# Altium footprint library PCB_template_A4.PcbLib: 19 footprints (part 1 of 2)
Each footprint in its own frame and in the unit in brackets; x right, y up, seen from the top. Pads: shape width x height; smd on the part's side, far side on the other; paste and mask are expansions set on the pad; w line width, h text height; cw(c..) or ccw(c..) is an arc to the next point about the centre after c.
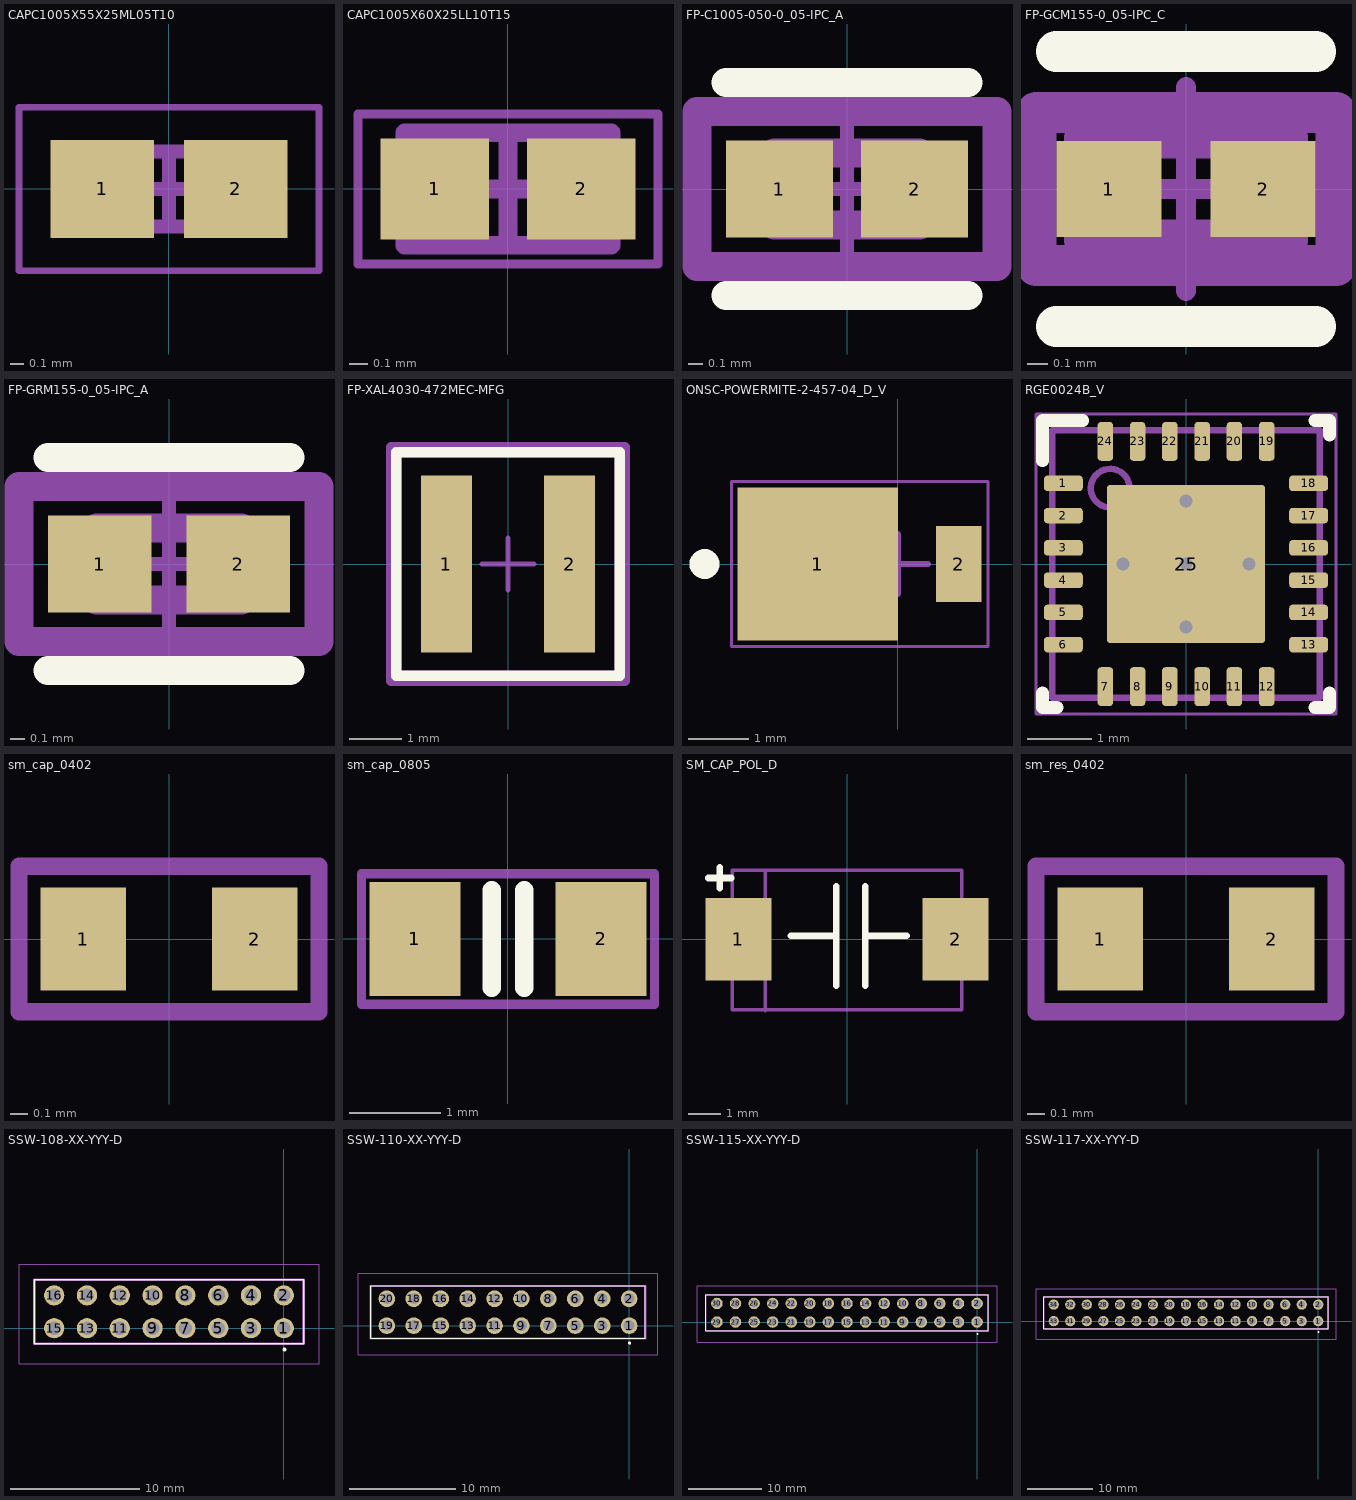
[diagram p0: the footprints below, top view; thin cyan lines are the x and y axes]

## CAPC1005X55X25ML05T10 [mm] "Chip Capacitor, 2-Leads, Body 1.00x0.50mm, IPC Low Density"
height 0.55
pads (2):
  rect 0.76x0.72 smd: 1(-0.49,0) 2(0.49,0)
Top Assembly:
  lines w0.1: -0.525,-0.275 0.525,-0.275 0.525,0.275 -0.525,0.275 -0.525,-0.275
Mechanical 15:
  lines w0.05: -1.1,-0.6 1.1,-0.6 1.1,0.6 -1.1,0.6 -1.1,-0.6
  lines w0.1: -0.275,0 0.275,0 ; 0,-0.275 0,0.275
3D body: height 0.55, standoff 0, extent 0.275,-0.275 0.525,0.275
3D body: height 0.55, standoff 0, extent -0.525,-0.275 -0.275,0.275
3D body: height 0.55, standoff 0, extent -0.275,-0.275 0.275,0.275

## CAPC1005X60X25LL10T15 [mm] "Chip Capacitor, 2-Leads, Body 1.00x0.50mm, IPC High Density"
height 0.6
pads (2):
  rect 0.58x0.54 smd: 1(-0.39,0) 2(0.39,0)
Top Assembly:
  lines w0.1: -0.55,-0.3 0.55,-0.3 0.55,0.3 -0.55,0.3 -0.55,-0.3
Mechanical 15:
  lines w0.05: -0.8,-0.4 0.8,-0.4 0.8,0.4 -0.8,0.4 -0.8,-0.4
  lines w0.1: -0.3,0 0.3,0 ; 0,-0.3 0,0.3
3D body: height 0.6, standoff 0, extent 0.3,-0.3 0.55,0.3
3D body: height 0.6, standoff 0, extent -0.55,-0.3 -0.3,0.3
3D body: height 0.6, standoff 0, extent -0.3,-0.3 0.3,0.3

## FP-C1005-050-0_05-IPC_A [mil]
pads (2):
  rect 29.11x26.48 smd paste+0 mask+0: 1(-18.37,0) 2(18.37,0)
Top Overlay:
  lines w7.87: -32.92,-28.99 32.92,-28.99 ; -32.92,28.99 32.92,28.99
Top 3D Body:
  lines w7.87: -19.68,-9.84 19.68,-9.84 19.68,9.84 -19.68,9.84 -19.68,-9.84
Top Assembly:
  lines w7.87: -40.8,-21.11 40.8,-21.11 40.8,21.11 -40.8,21.11 -40.8,-21.11
  text ".Designator" at 0,7.39 h39.37
Top Courtyard:
  lines w7.87: -40.8,-21.11 40.8,-21.11 40.8,21.11 -40.8,21.11 -40.8,-21.11
Top Component Center:
  lines w3.94: -19.68,0 19.68,0 ; 0,-19.68 0,19.68
3D body "Cap_TDK_C1005X6S1C105K050BC_eec.STEP": height 10, standoff 0, extent -40.8,-21.11 40.8,21.11

## FP-GCM155-0_05-IPC_C [mil]
pads (2):
  rect 20.29x18.6 smd paste+0 mask+0: 1(-14.9,0) 2(14.9,0)
Top Overlay:
  lines w7.87: -25.05,-26.57 25.05,-26.57 ; -25.05,26.57 25.05,26.57
Top 3D Body:
  lines w7.87: -19.68,-9.84 -19.68,9.84 19.68,9.84 19.68,-9.84 -19.68,-9.84
Top Assembly:
  lines w7.87: -28.99,-14.76 -28.99,14.76 28.99,14.76 28.99,-14.76 -28.99,-14.76
  text ".Designator" at 0,7.39 h39.37
Top Courtyard:
  lines w7.87: -28.99,-14.76 -28.99,14.76 28.99,14.76 28.99,-14.76 -28.99,-14.76
Top Component Center:
  lines w3.94: -19.68,0 19.68,0 ; 0,-19.68 0,19.68
3D body "Cap_Murata_GCM155R71H271KA37D_eec.STEP": height 10, standoff 0, extent -28.99,-14.76 28.99,14.76

## FP-GRM155-0_05-IPC_A [mil]
pads (2):
  rect 28.16x26.48 smd paste+0 mask+0: 1(-18.84,0) 2(18.84,0)
Top Overlay:
  lines w7.87: -32.92,-28.99 32.92,-28.99 ; -32.92,28.99 32.92,28.99
Top 3D Body:
  lines w7.87: -19.68,-9.84 -19.68,9.84 19.68,9.84 19.68,-9.84 -19.68,-9.84
Top Assembly:
  lines w7.87: -40.8,-21.11 -40.8,21.11 40.8,21.11 40.8,-21.11 -40.8,-21.11
  text ".Designator" at 0,7.39 h39.37
Top Courtyard:
  lines w7.87: -40.8,-21.11 -40.8,21.11 40.8,21.11 40.8,-21.11 -40.8,-21.11
Top Component Center:
  lines w3.94: -19.68,0 19.68,0 ; 0,-19.68 0,19.68
3D body "Cap_Murata_GRM1552C1H271GA01J_eec.STEP": height 10, standoff 0, extent -40.8,-21.11 40.8,21.11

## FP-XAL4030-472MEC-MFG [mm]
pads (2):
  rect 0.98x3.4 smd paste+0 mask+0: 1(-1.185,0) 2(1.185,0)
Top Overlay:
  lines w0.2: -2.15,-2.15 -2.15,2.15 2.15,2.15 2.15,-2.15 -2.15,-2.15
Top 3D Body:
  lines w0.2: -2.15,-2.15 -2.15,2.15 2.15,2.15 2.15,-2.15 -2.15,-2.15
Top Assembly:
  lines w0.2: -2.25,-2.25 -2.25,2.25 2.25,2.25 2.25,-2.25 -2.25,-2.25
  text ".Designator" at 0,-0.001 h1
Top Courtyard:
  lines w0.2: -2.25,-2.25 -2.25,2.25 2.25,2.25 2.25,-2.25 -2.25,-2.25
Top Component Center:
  lines w0.1: -0.5,0 0.5,0 ; 0,-0.5 0,0.5
3D body "Ind_Coilcraft_XAL4030-472MEC_eec.STEP": height 0.25, standoff 0, extent -2.25,-2.25 2.25,2.25

## ONSC-POWERMITE-2-457-04_D_V [mil] "POWERMITE, 2-Leads, Body 1.965x1.9mm"
height 45.28
pads (2):
  rect 105.12x100 smd: 1(-52.56,0)
  rect 30x50 smd: 2(40,0)
Top Overlay:
  circle w9.84: c-126.77,0 r4.92
Top Assembly:
  lines w3.94: -80.47,-37.4 -80.47,37.4 -3.11,37.4 -3.11,-37.4 -80.47,-37.4
Mechanical 15:
  lines w1.97: -109.06,-53.94 -109.06,53.94 58.94,53.94 58.94,-53.94 -109.06,-53.94
  lines w3.94: -19.68,0 19.68,0 ; 0,-19.68 0,19.68
3D body: height 45.28, standoff 0, extent -80.47,-37.4 -3.11,37.4

## RGE0024B_V [mm] "QFN, 24-Leads, Body 4x4mm, Pitch 0.5mm, Thermal Pad 2.45x2.45mm"
height 1
pads (25):
  rrect42% 0.6x0.24 smd: 1(-1.9,1.25) 2(-1.9,0.75) 3(-1.9,0.25) 4(-1.9,-0.25) 5(-1.9,-0.75) 6(-1.9,-1.25) 13(1.9,-1.25) 14(1.9,-0.75) 15(1.9,-0.25) 16(1.9,0.25) 17(1.9,0.75) 18(1.9,1.25)
  rrect42% 0.24x0.6 smd: 7(-1.25,-1.9) 8(-0.75,-1.9) 9(-0.25,-1.9) 10(0.25,-1.9) 11(0.75,-1.9) 12(1.25,-1.9) 19(1.25,1.9) 20(0.75,1.9) 21(0.25,1.9) 22(-0.25,1.9) 23(-0.75,1.9) 24(-1.25,1.9)
  rrect4% 2.45x2.45 smd paste-1.225: 25(0,0)
via 0,-0.975 diameter 0.5 hole 0.2
via 0.975,0 diameter 0.5 hole 0.2
via 0,0 diameter 0.5 hole 0.2
via -0.975,0 diameter 0.5 hole 0.2
via 0,0.975 diameter 0.5 hole 0.2
Top Overlay:
  lines w0.2: -2.225,-2 -2.225,-2.225 -2,-2.225 ; -2.225,1.6 -2.225,2.225 -1.6,2.225 ; 2,-2.225 2.225,-2.225 2.225,-2 ; 2,2.225 2.225,2.225 2.225,2
Top Paste:
  rectangle: 0.1,-1.184 1.184,-0.1
  region: -0.1,-0.1 -1.184,-0.1 -1.184,-1.184 -0.1,-1.184
  region: -0.1,1.184 -1.184,1.184 -1.184,0.1 -0.1,0.1
  rectangle: 0.1,0.1 1.184,1.184
Mechanical 1:
  text ".Designator" at -1.854,-0.508 h1.02
Top Assembly:
  circle w0.1: c-1.175,1.175 r0.3
  lines w0.1: -2.075,-2.075 2.075,-2.075 2.075,2.075 -2.075,2.075 -2.075,-2.075
Mechanical 15:
  lines w0.05: -2.325,-2.325 2.325,-2.325 2.325,2.325 -2.325,2.325 -2.325,-2.325
  lines w0.1: -0.5,0 0.5,0 ; 0,-0.5 0,0.5
3D body: height 1.01, standoff 0.5, extent -1.474,0.876 -0.876,1.474
3D body: height 1, standoff 0, extent -2.075,-2.075 2.075,2.075

## sm_cap_0402 [mm]
height 0.26
pads (2):
  rect 0.5x0.6 smd: 1(-0.5,0) 2(0.5,0)
Top Assembly:
  lines w0.102: -0.875,-0.425 -0.875,0.425 0.875,0.425 0.875,-0.425 -0.875,-0.425
  text ".Designator" at -0.787,-0.152 h1.27
3D body "User Library-0402 SMD Capacitor.step": height 0.2, standoff 0, extent -0.5,-0.3 0.5,0.3

## sm_cap_0805 [mil]
height 55
pads (2):
  rect 39x49 smd: 1(-40,0) 2(40,0)
Top Overlay:
  lines w8: -7,-21 -7,21 ; 7,-21 7,21
Top Assembly:
  lines w4: -63,-28 63,-28 63,28 -63,28 -63,-28
  text ".Designator" at -43,-9 h50
3D body: height 54, standoff 0, extent -39,-24 39,24
3D body: height 55, standoff 0, extent -40,-25 -30,25
3D body: height 55, standoff 0, extent 30,-25 40,25

## SM_CAP_POL_D [mil] "D package for tantaulm cpacitors"
height 122.05
pads (2):
  rect 80x100 smd: 1(-131.5,0) 2(131.5,0)
Top Overlay:
  lines w8: -168,74 -140,74 ; -154,62 -154,87 ; -68,4 -18,4 ; -13,-56 -13,64 ; 22,-56 22,64 ; 23,4 72,4
Top Assembly:
  lines w4: -99,-86.5 -99,82.5 ; -139,-85.5 139,-85.5 139,83.5 -139,83.5 -139,-85.5
  text ".Designator" at -86,-35 h50
  text "+" at -40,39 h51.18
3D body "asd.stp": height 109.45, standoff -0.79, extent -143.7,-84.64 143.7,84.65
3D body: height 122.05, standoff 3.37, extent -143.5,-89 143.5,89

## sm_res_0402 [mm]
height 0.26
pads (2):
  rect 0.5x0.6 smd: 1(-0.5,0) 2(0.5,0)
Top Assembly:
  lines w0.102: -0.875,-0.425 0.875,-0.425 0.875,0.425 -0.875,0.425 -0.875,-0.425
  text ".Designator" at -0.787,-0.152 h1.27
3D body: height 0.25, standoff 0, extent -0.475,-0.275 0.475,0.275
3D body: height 0.26, standoff 0, extent -0.504,-0.3 -0.25,0.3
3D body: height 0.26, standoff 0, extent 0.246,-0.3 0.5,0.3

## SSW-108-XX-YYY-D [mm]
pads (16):
  round 1.57 hole 1.04: 1(0,0) 2(0,2.54) 3(-2.54,0) 4(-2.54,2.54) 5(-5.08,0) 6(-5.08,2.54) 7(-7.62,0) 8(-7.62,2.54) 9(-10.16,0) 10(-10.16,2.54) 11(-12.7,0) 12(-12.7,2.54) 13(-15.24,0) 14(-15.24,2.54) 15(-17.78,0) 16(-17.78,2.54)
Top Overlay:
  circle w0.2: c0.05,-1.65 r0.05
  lines w0.1: -19.305,-1.205 -19.305,3.745 1.525,3.745 1.525,-1.205 -19.305,-1.205
Top Assembly:
  lines w0.2: -19.305,-1.205 -19.305,3.745 1.525,3.745 1.525,-1.205 -19.305,-1.205
Mechanical 15:
  lines w0.05: -20.505,-2.75 -20.505,4.945 2.725,4.945 2.725,-2.75 -20.505,-2.75
3D body "rotated.step": height 8.51, standoff -10.01, extent -19.304,-1.207 1.524,3.746

## SSW-110-XX-YYY-D [mm]
height 0.102
pads (20):
  round 1.57 hole 1.04: 1(0,0) 2(0,2.54) 3(-2.54,0) 4(-2.54,2.54) 5(-5.08,0) 6(-5.08,2.54) 7(-7.62,0) 8(-7.62,2.54) 9(-10.16,0) 10(-10.16,2.54) 11(-12.7,0) 12(-12.7,2.54) 13(-15.24,0) 14(-15.24,2.54) 15(-17.78,0) 16(-17.78,2.54) 17(-20.32,0) 18(-20.32,2.54) 19(-22.86,0) 20(-22.86,2.54)
Top Overlay:
  circle w0.2: c0.05,-1.65 r0.05
  lines w0.1: -24.385,-1.205 1.525,-1.205 1.525,3.745 -24.385,3.745 -24.385,-1.205
Top Assembly:
  lines w0.2: -24.385,-1.205 1.525,-1.205 1.525,3.745 -24.385,3.745 -24.385,-1.205
Mechanical 15:
  lines w0.05: -25.585,-2.75 2.725,-2.75 2.725,4.945 -25.585,4.945 -25.585,-2.75
3D body "SSW-110-23-G-D.step": height 8.51, standoff -10.01, extent -24.384,-1.206 1.524,3.746

## SSW-115-XX-YYY-D [mm]
height 0.102
pads (30):
  round 1.57 hole 1.04: 1(0,0) 2(0,2.54) 3(-2.54,0) 4(-2.54,2.54) 5(-5.08,0) 6(-5.08,2.54) 7(-7.62,0) 8(-7.62,2.54) 9(-10.16,0) 10(-10.16,2.54) 11(-12.7,0) 12(-12.7,2.54) 13(-15.24,0) 14(-15.24,2.54) 15(-17.78,0) 16(-17.78,2.54) 17(-20.32,0) 18(-20.32,2.54) 19(-22.86,0) 20(-22.86,2.54) 21(-25.4,0) 22(-25.4,2.54) 23(-27.94,0) 24(-27.94,2.54) 25(-30.48,0) 26(-30.48,2.54) 27(-33.02,0) 28(-33.02,2.54) 29(-35.56,0) 30(-35.56,2.54)
Top Overlay:
  circle w0.2: c0.05,-1.65 r0.05
  lines w0.1: -37.085,-1.205 1.525,-1.205 1.525,3.745 -37.085,3.745 -37.085,-1.205
Top Assembly:
  lines w0.2: -37.085,-1.205 1.525,-1.205 1.525,3.745 -37.085,3.745 -37.085,-1.205
Mechanical 15:
  lines w0.05: -38.285,-2.75 2.725,-2.75 2.725,4.945 -38.285,4.945 -38.285,-2.75
3D body "SSW-115-23-G-D.step": height 8.51, standoff -10.01, extent -37.084,-1.206 1.524,3.746

## SSW-117-XX-YYY-D [mm]
height 0.102
pads (34):
  round 1.57 hole 1.04: 1(0,0) 2(0,2.54) 3(-2.54,0) 4(-2.54,2.54) 5(-5.08,0) 6(-5.08,2.54) 7(-7.62,0) 8(-7.62,2.54) 9(-10.16,0) 10(-10.16,2.54) 11(-12.7,0) 12(-12.7,2.54) 13(-15.24,0) 14(-15.24,2.54) 15(-17.78,0) 16(-17.78,2.54) 17(-20.32,0) 18(-20.32,2.54) 19(-22.86,0) 20(-22.86,2.54) 21(-25.4,0) 22(-25.4,2.54) 23(-27.94,0) 24(-27.94,2.54) 25(-30.48,0) 26(-30.48,2.54) 27(-33.02,0) 28(-33.02,2.54) 29(-35.56,0) 30(-35.56,2.54) 31(-38.1,0) 32(-38.1,2.54) 33(-40.64,0) 34(-40.64,2.54)
Top Overlay:
  circle w0.2: c0.05,-1.65 r0.05
  lines w0.1: -42.165,-1.205 -42.165,3.745 1.525,3.745 1.525,-1.205 -42.165,-1.205
Top Assembly:
  lines w0.2: -42.165,-1.205 -42.165,3.745 1.525,3.745 1.525,-1.205 -42.165,-1.205
Mechanical 15:
  lines w0.05: -43.365,-2.75 -43.365,4.945 2.725,4.945 2.725,-2.75 -43.365,-2.75
3D body "SSW-117-23-G-D.step": height 8.51, standoff -10.01, extent -42.164,-1.206 1.524,3.746